# EAGLE library part 93LC46B (library reclone-rise)
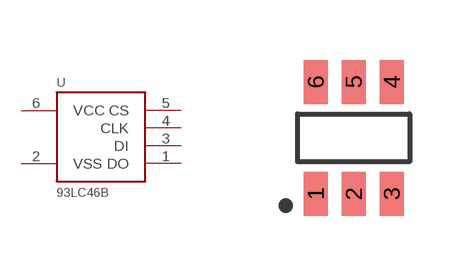
[diagram p16: symbol with the pads of SOT-23-6; footprint SOT-23-6]

Designator prefix -

## 93LC46B  [SOT-23-6]
1  DO
2  VSS
3  DI
4  CLK
5  CS
6  VCC

## Footprint SOT-23-6 (pad centres in mm)
smd 0.6 x 1.1: 1 -0.95,-1.4; 2 0,-1.4; 3 0.95,-1.4; 4 0.95,1.4; 5 0,1.4; 6 -0.95,1.4